# EAGLE library part CP2104 (library Fugu_LSI)
SINGLE-CHIP USB-TO-UART BRIDGE
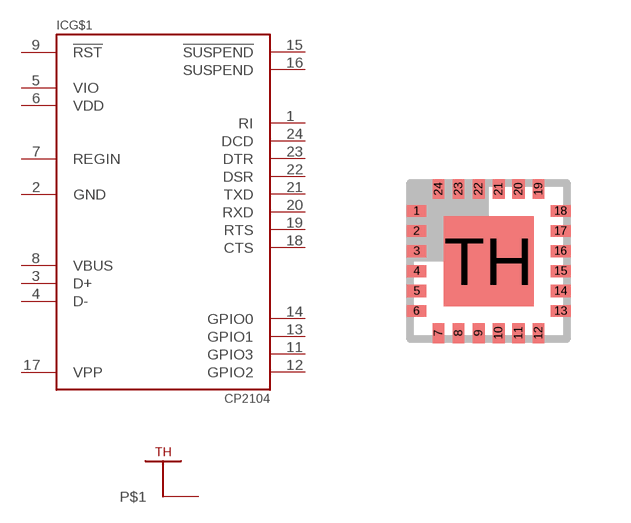
[diagram p13: symbol with the pads of HVQFN24; footprint HVQFN24]

Designator prefix IC; gates G$1=CP2104 G$2=THERMAL_HEATSINK

## CP2104  [HVQFN24]
1  G$1:RI
2  G$1:GND
3  G$1:D+
4  G$1:D-
5  G$1:VIO
6  G$1:VDD
7  G$1:REGIN
8  G$1:VBUS
9  G$1:!RST
11  G$1:GPIO3
12  G$1:GPIO2
13  G$1:GPIO1
14  G$1:GPIO0
15  G$1:!SUSPEND
16  G$1:SUSPEND
17  G$1:VPP
18  G$1:CTS
19  G$1:RTS
20  G$1:RXD
21  G$1:TXD
22  G$1:DSR
23  G$1:DTR
24  G$1:DCD

## Footprint HVQFN24 (pad centres in mm)
plastic thermal enhanced very thin quad flat package SOT616-1 no leads; 24 terminals; body 4 x 4 x 0.85 mm Source: PCA9555_5.pdf
smd 0.5 x 0.3: 1 -1.8,1.25; 2 -1.8,0.75; 3 -1.8,0.25; 4 -1.8,-0.25; 5 -1.8,-0.75; 6 -1.8,-1.25; 13 1.8,-1.25; 14 1.8,-0.75; 15 1.8,-0.25; 16 1.8,0.25; 17 1.8,0.75; 18 1.8,1.25
smd 0.3 x 0.5: 7 -1.25,-1.8; 8 -0.75,-1.8; 9 -0.25,-1.8; 10 0.25,-1.8; 11 0.75,-1.8; 12 1.25,-1.8; 19 1.25,1.8; 20 0.75,1.8; 21 0.25,1.8; 22 -0.25,1.8; 23 -0.75,1.8; 24 -1.25,1.8
smd 2.25 x 2.25: TH 0,0